# EAGLE library part 62000611121 (library Header_R_ESP32)
THT Vertical Pin Header WR-PHD, Pitch 2.00 mm, Single Row, 6 pins Manufacturer's datasheet <https://datasheet.octopart.com/62000611121-W%C3%BCrth-Elektronik-datasheet-117282008.pdf>
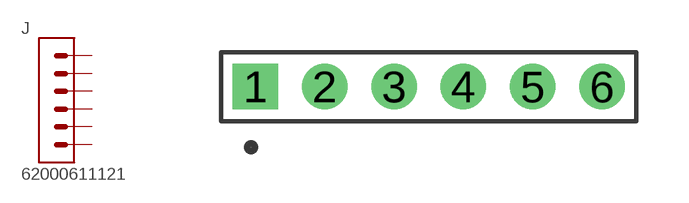
[diagram p12: symbol with the pads of 62000611121; footprint 62000611121]

Designator prefix J

## 62000611121 (CREATED_BY: PCBLayout.com; MANUFACTURER: Würth Elektronik; MPN: 62000611121)  [62000611121]
1  1  pas
2  2  pas
3  3  pas
4  4  pas
5  5  pas
6  6  pas

## Footprint 62000611121 (pad centres in mm)
drill 0.8 square: 1 -5,0
drill 0.8: 2 -3,0; 3 -1,0; 4 1,0; 5 3,0; 6 5,0